# EAGLE library part FPC-56WAY (library pimoroni-fpc)
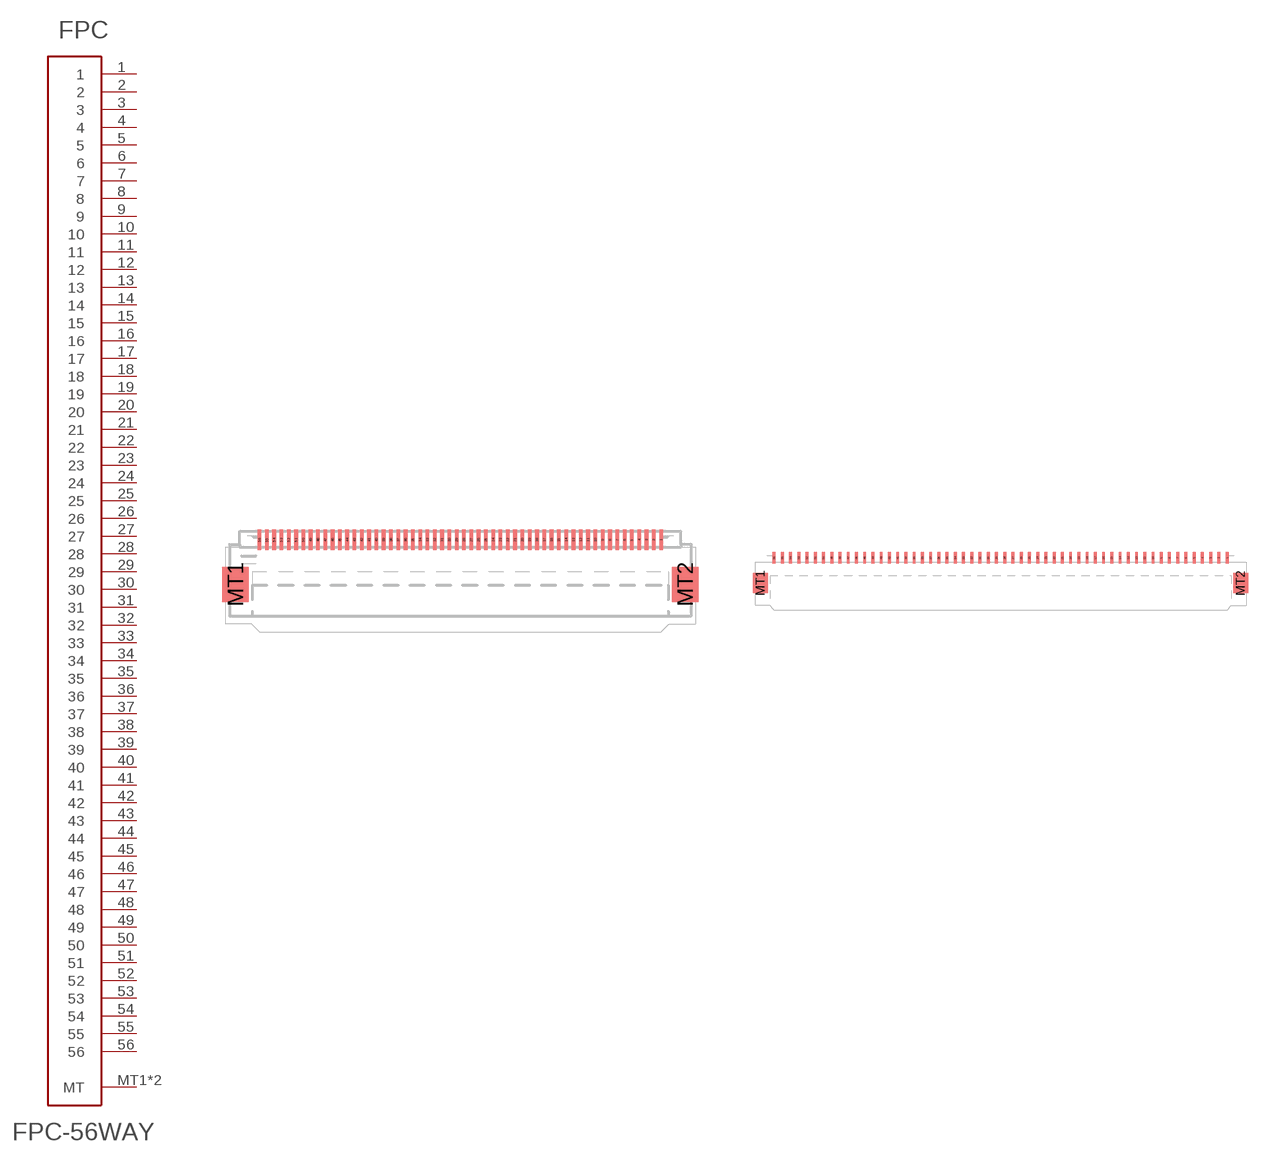
[diagram p51: symbol with the pads of FPC-0.5MM-56WAY; footprints FPC-0.5MM-56WAY, FPC-1.0MM-56WAY]

Designator prefix FPC

## FPC-56WAY0.5  [FPC-0.5MM-56WAY]
1  1
2  2
3  3
4  4
5  5
6  6
7  7
8  8
9  9
10  10
11  11
12  12
13  13
14  14
15  15
16  16
17  17
18  18
19  19
20  20
21  21
22  22
23  23
24  24
25  25
26  26
27  27
28  28
29  29
30  30
31  31
32  32
33  33
34  34
35  35
36  36
37  37
38  38
39  39
40  40
41  41
42  42
43  43
44  44
45  45
46  46
47  47
48  48
49  49
50  50
51  51
52  52
53  53
54  54
55  55
56  56
MT1  MT
MT2  MT

## FPC-56WAY1.0  [FPC-1.0MM-56WAY]
Pads as for FPC-0.5MM-56WAY

## Footprint FPC-0.5MM-56WAY (pad centres in mm)
smd 0.25 x 1.4: 1 13.75,0.7; 2 13.25,0.7; 3 12.75,0.7; 4 12.25,0.7; 5 11.75,0.7; 6 11.25,0.7; 7 10.75,0.7; 8 10.25,0.7; 9 9.75,0.7; 10 9.25,0.7; 11 8.75,0.7; 12 8.25,0.7; 13 7.75,0.7; 14 7.25,0.7; 15 6.75,0.7; 16 6.25,0.7; 17 5.75,0.7; 18 5.25,0.7; 19 4.75,0.7; 20 4.25,0.7; 21 3.75,0.7; 22 3.25,0.7; 23 2.75,0.7; 24 2.25,0.7; 25 1.75,0.7; 26 1.25,0.7; 27 0.75,0.7; 28 0.25,0.7; 29 -0.25,0.7; 30 -0.75,0.7; 31 -1.25,0.7; 32 -1.75,0.7; 33 -2.25,0.7; 34 -2.75,0.7; 35 -3.25,0.7; 36 -3.75,0.7; 37 -4.25,0.7; 38 -4.75,0.7; 39 -5.25,0.7; 40 -5.75,0.7; 41 -6.25,0.7; 42 -6.75,0.7; 43 -7.25,0.7; 44 -7.75,0.7; 45 -8.25,0.7; 46 -8.75,0.7; 47 -9.25,0.7; 48 -9.75,0.7; 49 -10.25,0.7; 50 -10.75,0.7; 51 -11.25,0.7; 52 -11.75,0.7; 53 -12.25,0.7; 54 -12.75,0.7; 55 -13.25,0.7; 56 -13.75,0.7
smd 1.8 x 2.4: MT1 -15.4,-2.35; MT2 15.4,-2.35

## Footprint FPC-1.0MM-56WAY (pad centres in mm)
smd 0.35 x 1.4: 1 27.5,0.7; 2 26.5,0.7; 3 25.5,0.7; 4 24.5,0.7; 5 23.5,0.7; 6 22.5,0.7; 7 21.5,0.7; 8 20.5,0.7; 9 19.5,0.7; 10 18.5,0.7; 11 17.5,0.7; 12 16.5,0.7; 13 15.5,0.7; 14 14.5,0.7; 15 13.5,0.7; 16 12.5,0.7; 17 11.5,0.7; 18 10.5,0.7; 19 9.5,0.7; 20 8.5,0.7; 21 7.5,0.7; 22 6.5,0.7; 23 5.5,0.7; 24 4.5,0.7; 25 3.5,0.7; 26 2.5,0.7; 27 1.5,0.7; 28 0.5,0.7; 29 -0.5,0.7; 30 -1.5,0.7; 31 -2.5,0.7; 32 -3.5,0.7; 33 -4.5,0.7; 34 -5.5,0.7; 35 -6.5,0.7; 36 -7.5,0.7; 37 -8.5,0.7; 38 -9.5,0.7; 39 -10.5,0.7; 40 -11.5,0.7; 41 -12.5,0.7; 42 -13.5,0.7; 43 -14.5,0.7; 44 -15.5,0.7; 45 -16.5,0.7; 46 -17.5,0.7; 47 -18.5,0.7; 48 -19.5,0.7; 49 -20.5,0.7; 50 -21.5,0.7; 51 -22.5,0.7; 52 -23.5,0.7; 53 -24.5,0.7; 54 -25.5,0.7; 55 -26.5,0.7; 56 -27.5,0.7
smd 1.8 x 2.4: MT1 -29.15,-2.35; MT2 29.15,-2.35